# EAGLE library part DS18B20U+ (library Sensor)
SENSOR DIGITAL -55C-125C 8UMAX Manufacturer's datasheet <https://datasheets.maximintegrated.com/en/ds/DS18B20.pdf>
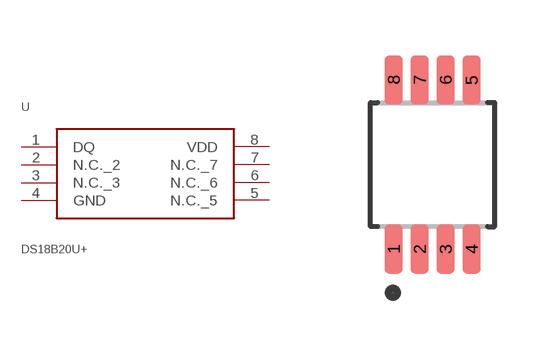
[diagram p13: symbol with the pads of 8-MSOP; footprint 8-MSOP]

Designator prefix U

## DS18B20U+ (CREATED_BY: PCBLayout.com; DIGIKEY_PART_NUMBER: DS18B20U+-ND; MANUFACTURER: Maxim Integrated; MPN: DS18B20U+; PACKAGE: 8-MSOP)  [8-MSOP]
1  DQ
2  N.C._2  pas
3  N.C._3  pas
4  GND  pwr
5  N.C._5  pas
6  N.C._6  pas
7  N.C._7  pas
8  VDD  pwr

## Footprint 8-MSOP (pad centres in mm)
Small Outline Pkg (SOP), 0.65 mm pitch; 8 pin, 3.00 mm L X 3.00 mm W X 1.10 mm H body PCB Libraries Packages
smd 0.45 x 1.22: 1 -0.975,-2.115; 2 -0.325,-2.115; 3 0.325,-2.115; 4 0.975,-2.115; 5 0.975,2.115; 6 0.325,2.115; 7 -0.325,2.115; 8 -0.975,2.115